# Altium schematic symbol library CH32V103R核心板整体原理.SchLib: 1 symbol
Pins are listed as number, name and electrical type; pins without a type are passive.

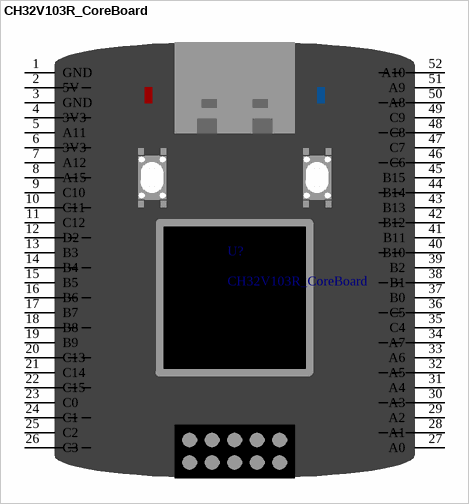
[diagram p0: symbol CH32V103R_CoreBoard]

## CH32V103R_CoreBoard
designator U?
逐飞科技 CH32V103R核心板
footprint CH32V103R_CoreBoard (逐飞科技CH32V103R核心板)
pins: 1 GND, 2 5V, 3 GND, 4 3V3, 5 A11, 6 3V3, 7 A12, 8 A15, 9 C10, 10 C11, 11 C12, 12 D2, 13 B3, 14 B4, 15 B5, 16 B6, 17 B7, 18 B8, 19 B9, 20 C13, 21 C14, 22 C15, 23 C0, 24 C1, 25 C2, 26 C3, 27 A0, 28 A1, 29 A2, 30 A3, 31 A4, 32 A5, 33 A6, 34 A7, 35 C4, 36 C5, 37 B0, 38 B1, 39 B2, 40 B10, 41 B11, 42 B12, 43 B13, 44 B14, 45 B15, 46 C6, 47 C7, 48 C8, 49 C9, 50 A8, 51 A9, 52 A10